# EAGLE library part BV20_1P2S (library bv_20)
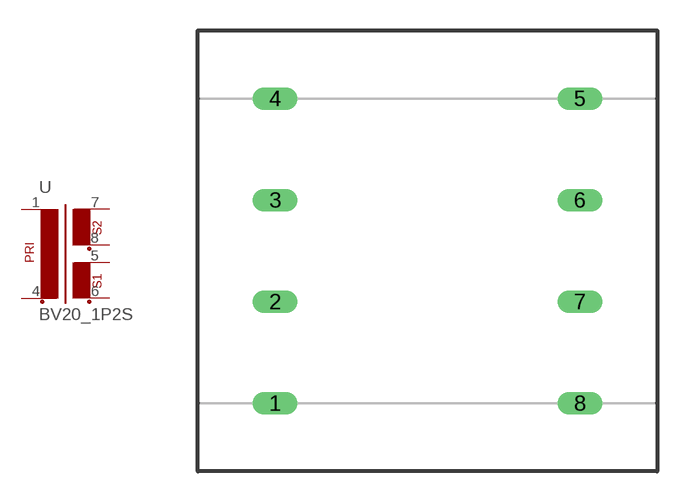
[diagram p0: symbol with the pads of BV20; footprint BV20]

Designator prefix -

## BV20_1P2S  [BV20]
1  1  pas
4  2  pas
5  4  pas
6  3  pas
7  6  pas
8  5  pas

## Footprint BV20 (pad centres in mm)
drill 0.6 long: 1 -7.5,-7.5; 2 -7.5,-2.5; 3 -7.5,2.5; 4 -7.5,7.5; 5 7.5,7.5; 6 7.5,2.5; 7 7.5,-2.5; 8 7.5,-7.5